# EAGLE library part TLV2770 (library PulseOximeterECG_AU)
TLV2770 OP AMP Datasheet <http://www.ti.com/lit/ds/symlink/tlv2770.pdf> Rail to Rail Op Amp, 2.7 to 5V with shutdown pin
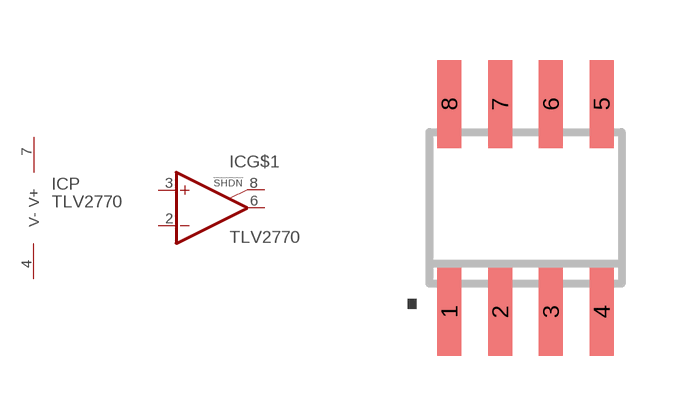
[diagram p5: symbol with the pads of SO08; footprint SO08]

Designator prefix IC; gates G$1=2NUL P=PPINS

## TLV2770D, TLV2770LMD  [SO08]
2  G$1:-IN  in
3  G$1:+IN  in
4  P:V-  pwr
6  G$1:OUT  out
7  P:V+  pwr
8  G$1:!SHDN  pas

## Footprint SO08 (pad centres in mm)
Small Outline Package 8 NS Package M08A
smd 0.6 x 2.2: 1 -1.905,-2.6; 2 -0.635,-2.6; 3 0.635,-2.6; 4 1.905,-2.6; 5 1.905,2.6; 6 0.635,2.6; 7 -0.635,2.6; 8 -1.905,2.6